# Altium footprint library ERF8-020-05.PcbLib: 1 footprints
Each footprint in its own frame and in the unit in brackets; x right, y up, seen from the top. Pads: shape width x height; smd on the part's side, far side on the other; paste and mask are expansions set on the pad; w line width, h text height; cw(c..) or ccw(c..) is an arc to the next point about the centre after c.
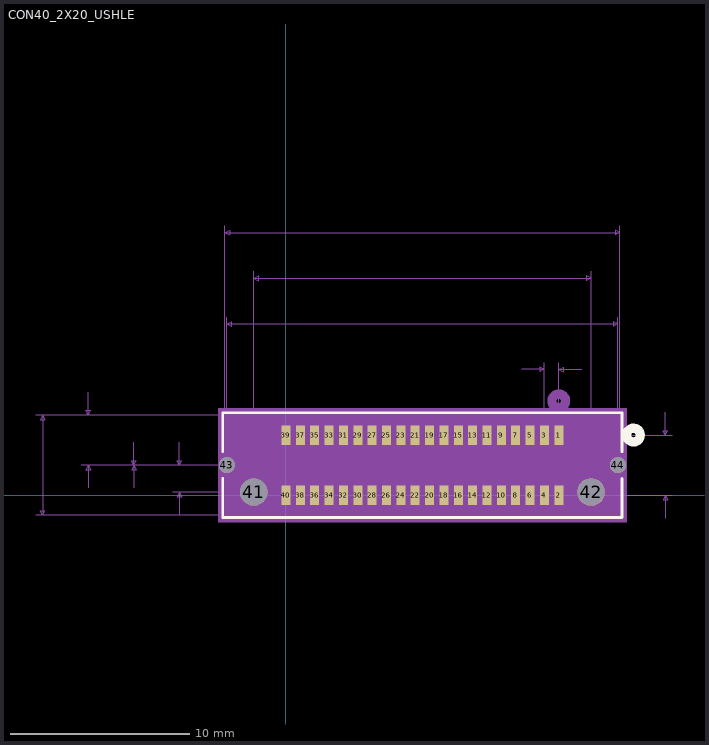
[diagram p0: the footprint, top view; thin cyan lines are the x and y axes]

## CON40_2X20_USHLE [mil]
pads (44):
  rect 19.7x43 smd paste+0 mask+0: 1(598.5,132) 2(598.5,0) 3(567,132) 4(567,0) 5(535.5,132) 6(535.5,0) 7(504,132) 8(504,0) 9(472.5,132) 10(472.5,0) 11(441,132) 12(441,0) 13(409.5,132) 14(409.5,0) 15(378,132) 16(378,0) 17(346.5,132) 18(346.5,0) 19(315,132) 20(315,0) 21(283.5,132) 22(283.5,0) 23(252,132) 24(252,0) 25(220.5,132) 26(220.5,0) 27(189,132) 28(189,0) 29(157.5,132) 30(157.5,0) 31(126,132) 32(126,0) 33(94.5,132) 34(94.5,0) 35(63,132) 36(63,0) 37(31.5,132) 38(31.5,0) 39(0,132) 40(0,0)
  round 60 hole 60: 41(-70.75,7) 42(669.25,7)
  round 35 hole 35: 43(-129.75,66) 44(728.25,66)
Top Overlay:
  circle w20: c762.25,132 r15
  lines w6: -138.75,36.75 -138.75,-49 737.25,-49 737.25,36.75 ; -138.75,95.25 -138.75,181 737.25,181 737.25,95.25
Bottom Overlay:
  circle w20: c762.25,132 r15
Mechanical 5:
  region: -148.75,191 747.25,191 747.25,-59 -148.75,-59
Mechanical 7:
  lines w1: -548.75,-44 -133.75,-44 ; -548.75,176 -133.75,176 ; -448.75,66 299.25,66 ; -448.75,176 -133.75,176 ; -433.75,16 -433.75,66 ; -433.75,226 -433.75,176 ; -333.75,16 -333.75,66 ; -333.75,116 -333.75,66 ; -248.75,7 669.25,7 669.25,491 ; -248.75,66 299.25,66 ; -233.75,-43 -233.75,7 ; -233.75,116 -233.75,66 ; -133.75,591 -133.75,176 ; -129.75,66 -129.75,391 ; -70.75,7 -70.75,491 ; 517,276 567,276 ; 567,132 567,291 ; 598.5,0 847.25,0 ; 598.5,291 598.5,132 847.25,132 ; 648.5,276 598.5,276 ; 728.25,391 728.25,66 -348.75,66 299.25,66 ; 732.25,176 732.25,591 ; 832.25,-50 832.25,0 ; 832.25,182 832.25,132 ; -533.75,-44 -533.75,176 ; -533.75,-44 -538.75,-34 -528.75,-34 -533.75,-44 ; -533.75,176 -538.75,166 -528.75,166 -533.75,176 ; -433.75,66 -438.75,56 -428.75,56 -433.75,66 ; -433.75,176 -438.75,186 -428.75,186 -433.75,176 ; -333.75,66 -338.75,76 -328.75,76 -333.75,66 ; -333.75,66 -338.75,56 -328.75,56 -333.75,66 ; -233.75,7 -238.75,-3 -228.75,-3 -233.75,7 ; -233.75,66 -238.75,76 -228.75,76 -233.75,66 ; -133.75,576 732.25,576 ; -133.75,576 -123.75,581 -123.75,571 -133.75,576 ; -129.75,376 728.25,376 ; -129.75,376 -119.75,381 -119.75,371 -129.75,376 ; -70.75,476 669.25,476 ; -70.75,476 -60.75,481 -60.75,471 -70.75,476 ; 567,276 557,281 557,271 567,276 ; 598.5,276 608.5,281 608.5,271 598.5,276 ; 669.25,476 659.25,481 659.25,471 669.25,476 ; 728.25,376 718.25,381 718.25,371 728.25,376 ; 732.25,576 722.25,581 722.25,571 732.25,576 ; 832.25,0 827.25,-10 837.25,-10 832.25,0 ; 832.25,132 827.25,142 837.25,142 832.25,132
  text "Default Padstyle: RX19p7Y43D0T" at -75.75,-194 h50
  text "1st Mtg Padstyle: EX60Y60D60P" at -63.25,-269 h50
  text "2nd Mtg Padstyle: EX35Y35D35P" at -63.25,-344 h50
  text "3rd Mtg Padstyle: EX70Y70D70P" at -63.25,-419 h50
  text "Left Mtg Padstyle: EX60Y60D30P" at -75.75,-494 h50
  text "Right Mtg Padstyle: EX60Y60D30P" at -88.25,-569 h50
  text "Alt Padstyle 1: OX60Y90D30P" at -38.25,-644 h50
  text "Alt Padstyle 2: OX90Y60D30P" at -38.25,-719 h50
  text "0.032in/0.8mm" at 533,296 h25
  text "0.858in/21.793mm" at 199.25,396 h25
  text "0.74in/18.796mm" at 205.5,496 h25
  text "0.866in/21.996mm" at 199.25,596 h25
  text "0.132in/3.353mm" at 852.25,53.5 h25
  text "-0.059in/-1.499mm" at -466.25,24 h25
  text "0in/0mm" at -441.25,53.5 h25
  text "0.11in/2.794mm" at -628.75,108.5 h25
  text "0.22in/5.588mm" at -728.75,108.5 h25
Mechanical 13:
  circle w20: c598.5,207 r15
  lines w1: -133.75,-44 732.25,-44 732.25,176 -133.75,176 -133.75,-44
Mechanical 15:
  region: 742.25,186 -143.75,186 -143.75,-54 742.25,-54
  region: 732.25,176 -133.75,176 -133.75,-44 732.25,-44
  lines w6: -143.75,-54 -143.75,186 742.25,186 742.25,-54 -143.75,-54
3D body: height 10, standoff 0, extent 0,0 10,10